# Altium footprint library Connectors Rectangular 2.54 PB.PcbLib: 15 footprints
Each footprint in its own frame and in the unit in brackets; x right, y up, seen from the top. Pads: shape width x height; smd on the part's side, far side on the other; paste and mask are expansions set on the pad; w line width, h text height; cw(c..) or ccw(c..) is an arc to the next point about the centre after c.
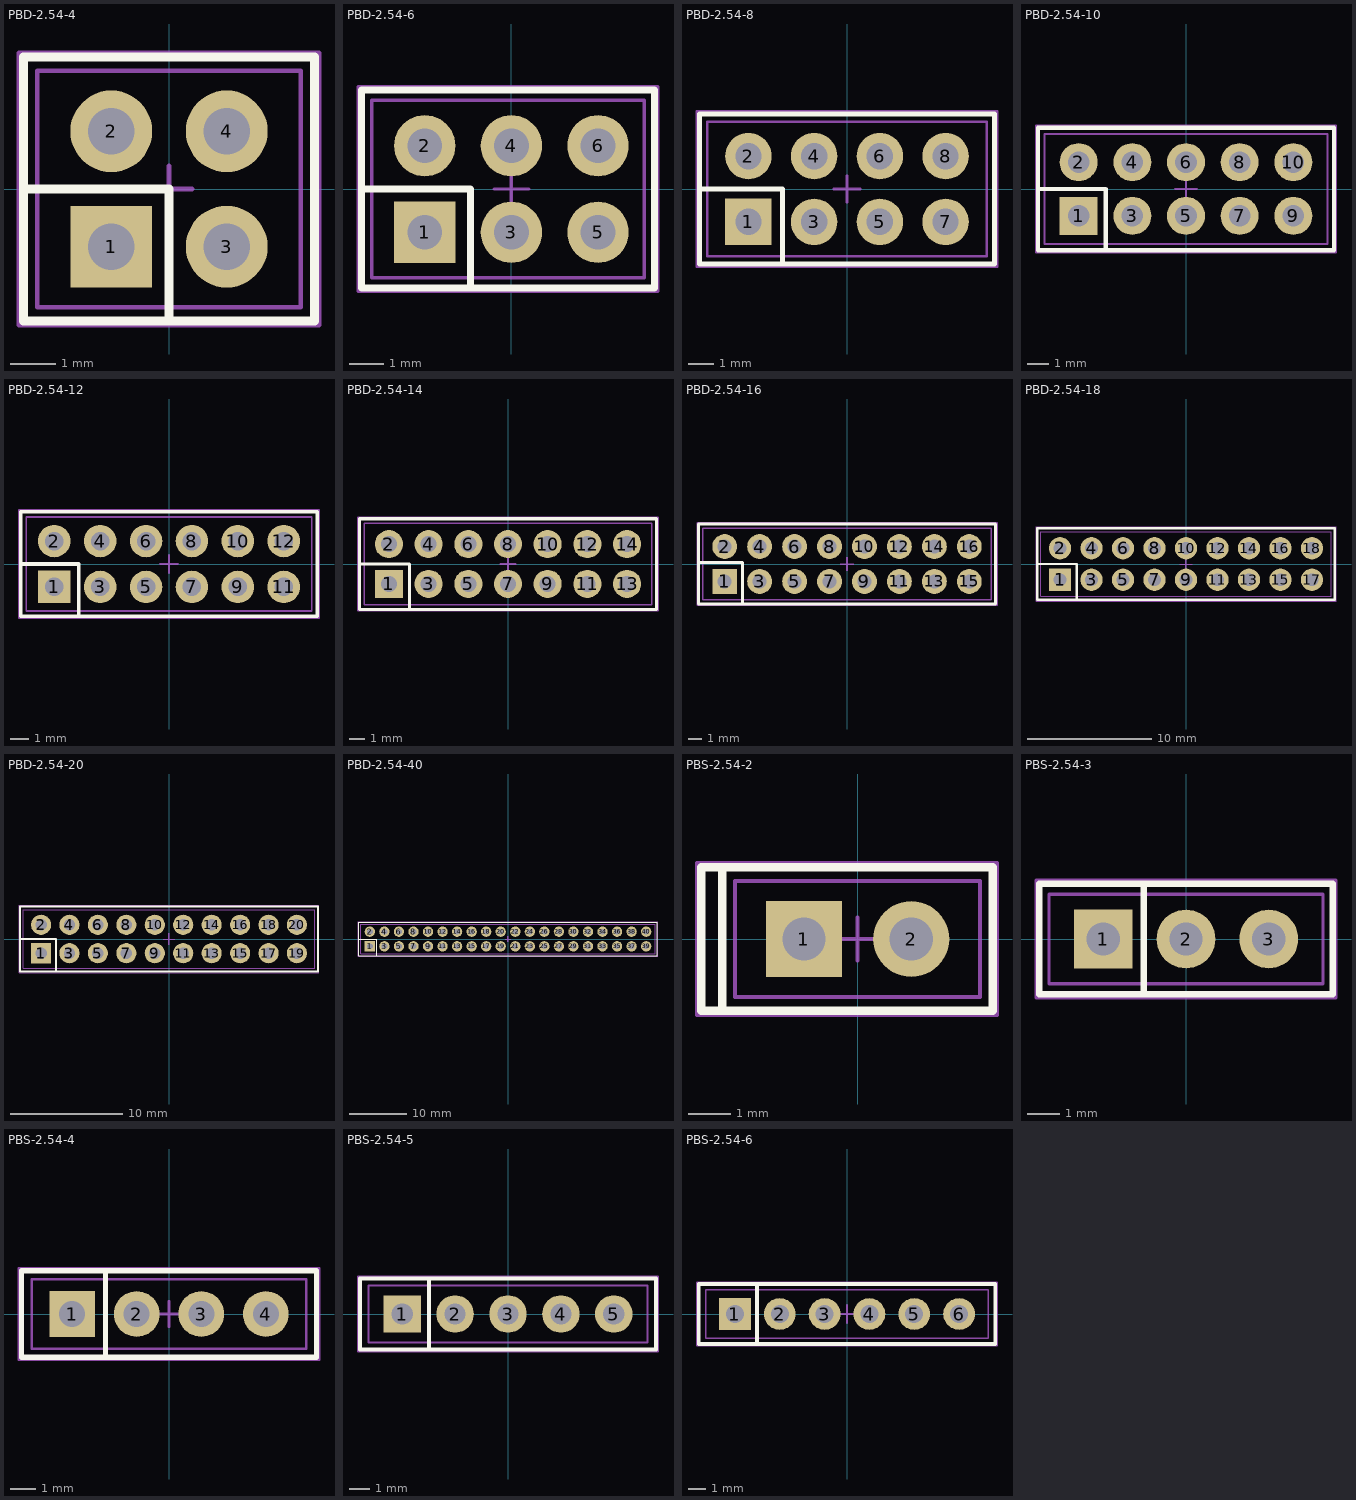
[diagram p0: the footprints below, top view; thin cyan lines are the x and y axes]

## PBD-2.54-4 [mm]
height 8.54
pads (4):
  rect 1.8x1.8 hole 1.02: 1(-1.27,-1.27)
  round 1.8 hole 1.02: 2(-1.27,1.27) 3(1.27,-1.27) 4(1.27,1.27)
Top Overlay:
  lines w0.2: -3.2,0 0,0 0,-2.9 ; -3.2,-2.9 3.2,-2.9 3.2,2.9 -3.2,2.9 -3.2,-2.9
Top Package:
  circle w0.1: c1.27,-1.27 r0.4
  circle w0.1: c1.27,1.27 r0.4
  circle w0.1: c-1.27,-1.27 r0.4
  circle w0.1: c-1.27,1.27 r0.4
  lines w0.1: -2.9,-2.6 2.9,-2.6 2.9,2.6 -2.9,2.6 -2.9,-2.6
Top Comment:
  text ".Comment" at -2.84,3.548 h2
Top Designator:
  text ".Designator" at -4.303,3.617 h2.5
Top Border:
  lines w0.1: -0.5,0 0.5,0 ; 0,-0.5 0,0.5 ; -3.3,-3 -3.3,3 3.3,3 3.3,-3 -3.3,-3 ; -0.508,0 0.508,0 -0.508,0 ; 0,-0.508 0,0.508 0,-0.508
3D body "PB-2x V1.stp": height 8.6, standoff -2.9, extent -0.2,-2.52 2.74,2.52
3D body "PB-2x V1.stp": height 8.6, standoff -2.9, extent -2.74,-2.52 0.2,2.52

## PBD-2.54-6 [mm]
height 8.54
pads (6):
  rect 1.8x1.8 hole 1.02: 1(-2.54,-1.27)
  round 1.8 hole 1.02: 2(-2.54,1.27) 3(0,-1.27) 4(0,1.27) 5(2.54,-1.27) 6(2.54,1.27)
Top Overlay:
  lines w0.2: -4.4,0 -1.2,0 -1.2,-2.9 ; -4.4,-2.9 4.2,-2.9 4.2,2.9 -4.4,2.9 -4.4,-2.9
Top Package:
  circle w0.1: c0,-1.27 r0.4
  circle w0.1: c0,1.27 r0.4
  circle w0.1: c-2.54,-1.27 r0.4
  circle w0.1: c-2.54,1.27 r0.4
  circle w0.1: c2.54,1.27 r0.4
  circle w0.1: c2.54,-1.27 r0.4
  lines w0.1: -4.1,-2.6 3.9,-2.6 3.9,2.6 -4.1,2.6 -4.1,-2.6
Top Comment:
  text ".Comment" at -2.84,3.548 h2
Top Designator:
  text ".Designator" at -4.303,3.617 h2.5
Top Border:
  lines w0.1: -0.5,0 0.5,0 ; 0,-0.5 0,0.5 ; -4.5,-3 -4.5,3 4.3,3 4.3,-3 -4.5,-3 ; -0.508,0 0.508,0 -0.508,0 ; 0,-0.508 0,0.508 0,-0.508
3D body "PB-2x V1.stp": height 8.6, standoff -2.9, extent -1.67,-2.52 1.27,2.52
3D body "PB-2x V1.stp": height 8.6, standoff -2.9, extent -4.01,-2.52 -1.07,2.52
3D body "PB-2x V1.stp": height 8.6, standoff -2.9, extent 0.87,-2.52 3.81,2.52

## PBD-2.54-8 [mm]
height 8.54
pads (8):
  rect 1.8x1.8 hole 1.02: 1(-3.81,-1.27)
  round 1.8 hole 1.02: 2(-3.81,1.27) 3(-1.27,-1.27) 4(-1.27,1.27) 5(1.27,-1.27) 6(1.27,1.27) 7(3.81,-1.27) 8(3.81,1.27)
Top Overlay:
  lines w0.2: -5.7,0 -2.5,0 -2.5,-2.9 ; -5.7,-2.9 5.7,-2.9 5.7,2.9 -5.7,2.9 -5.7,-2.9
Top Package:
  circle w0.1: c1.27,-1.27 r0.4
  circle w0.1: c1.27,1.27 r0.4
  circle w0.1: c-1.27,-1.27 r0.4
  circle w0.1: c-1.27,1.27 r0.4
  circle w0.1: c-3.81,-1.27 r0.4
  circle w0.1: c-3.81,1.27 r0.4
  circle w0.1: c3.81,-1.27 r0.4
  circle w0.1: c3.81,1.27 r0.4
  lines w0.1: -5.4,-2.6 5.4,-2.6 5.4,2.6 -5.4,2.6 -5.4,-2.6
Top Comment:
  text ".Comment" at -3.548,3.385 h2.5
Top Designator:
  text ".Designator" at -4.303,3.617 h2.5
Top Border:
  lines w0.1: -0.5,0 0.5,0 ; 0,-0.5 0,0.5 ; -5.8,-3 -5.8,3 5.8,3 5.8,-3 -5.8,-3 ; -0.508,0 0.508,0 -0.508,0 ; 0,-0.508 0,0.508 0,-0.508
3D body "PB-2x V1.stp": height 8.6, standoff -2.9, extent -0.2,-2.52 2.74,2.52
3D body "PB-2x V1.stp": height 8.6, standoff -2.9, extent -2.74,-2.52 0.2,2.52
3D body "PB-2x V1.stp": height 8.6, standoff -2.9, extent -5.28,-2.52 -2.34,2.52
3D body "PB-2x V1.stp": height 8.6, standoff -2.9, extent 2.34,-2.52 5.28,2.52

## PBD-2.54-10 [mm]
height 8.54
pads (10):
  rect 1.8x1.8 hole 1.02: 1(-5.08,-1.27)
  round 1.8 hole 1.02: 2(-5.08,1.27) 3(-2.54,-1.27) 4(-2.54,1.27) 5(0,-1.27) 6(0,1.27) 7(2.54,-1.27) 8(2.54,1.27) 9(5.08,-1.27) 10(5.08,1.27)
Top Overlay:
  lines w0.2: -7,0 -3.8,0 -3.8,-2.9 ; -7,-2.9 7,-2.9 7,2.9 -7,2.9 -7,-2.9
Top Package:
  circle w0.1: c5.08,-1.27 r0.4
  circle w0.1: c5.08,1.27 r0.4
  circle w0.1: c-5.08,-1.27 r0.4
  circle w0.1: c-5.08,1.27 r0.4
  circle w0.1: c0,-1.27 r0.4
  circle w0.1: c0,1.27 r0.4
  circle w0.1: c-2.54,-1.27 r0.4
  circle w0.1: c-2.54,1.27 r0.4
  circle w0.1: c2.54,1.27 r0.4
  circle w0.1: c2.54,-1.27 r0.4
  lines w0.1: -6.7,-2.6 6.7,-2.6 6.7,2.6 -6.7,2.6 -6.7,-2.6
Top Comment:
  text ".Comment" at -3.548,3.385 h2.5
Top Designator:
  text ".Designator" at -4.303,3.617 h2.5
Top Border:
  lines w0.1: -0.5,0 0.5,0 ; 0,-0.5 0,0.5 ; -7.1,-3 -7.1,3 7.1,3 7.1,-3 -7.1,-3 ; -0.508,0 0.508,0 -0.508,0 ; 0,-0.508 0,0.508 0,-0.508
3D body "PB-2x V1.stp": height 8.6, standoff -2.9, extent 3.61,-2.52 6.55,2.52
3D body "PB-2x V1.stp": height 8.6, standoff -2.9, extent -6.55,-2.52 -3.61,2.52
3D body "PB-2x V1.stp": height 8.6, standoff -2.9, extent -1.67,-2.52 1.27,2.52
3D body "PB-2x V1.stp": height 8.6, standoff -2.9, extent -4.01,-2.52 -1.07,2.52
3D body "PB-2x V1.stp": height 8.6, standoff -2.9, extent 0.87,-2.52 3.81,2.52

## PBD-2.54-12 [mm]
height 8.54
pads (12):
  rect 1.8x1.8 hole 1.02: 1(-6.35,-1.27)
  round 1.8 hole 1.02: 2(-6.35,1.27) 3(-3.81,-1.27) 4(-3.81,1.27) 5(-1.27,-1.27) 6(-1.27,1.27) 7(1.27,-1.27) 8(1.27,1.27) 9(3.81,-1.27) 10(3.81,1.27) 11(6.35,-1.27) 12(6.35,1.27)
Top Overlay:
  lines w0.2: -8.2,0 -5,0 -5,-2.9 ; -8.2,-2.9 -8.2,2.9 8.2,2.9 8.2,-2.9 -8.2,-2.9
Top Package:
  circle w0.1: c3.81,1.27 r0.4
  circle w0.1: c3.81,-1.27 r0.4
  circle w0.1: c-3.81,1.27 r0.4
  circle w0.1: c-3.81,-1.27 r0.4
  circle w0.1: c-1.27,1.27 r0.4
  circle w0.1: c-1.27,-1.27 r0.4
  circle w0.1: c1.27,1.27 r0.4
  circle w0.1: c1.27,-1.27 r0.4
  circle w0.1: c-6.35,1.27 r0.4
  circle w0.1: c-6.35,-1.27 r0.4
  circle w0.1: c6.35,1.27 r0.4
  circle w0.1: c6.35,-1.27 r0.4
  lines w0.1: -7.9,-2.6 -7.9,2.6 7.9,2.6 7.9,-2.6 -7.9,-2.6
Top Comment:
  text ".Comment" at -3.548,3.385 h2.5
Top Designator:
  text ".Designator" at -4.303,3.617 h2.5
Top Border:
  lines w0.1: -0.5,0 0.5,0 ; 0,-0.5 0,0.5 ; -8.3,-3 8.3,-3 8.3,3 -8.3,3 -8.3,-3 ; -0.508,0 0.508,0 -0.508,0 ; 0,-0.508 0,0.508 0,-0.508
3D body "PB-2x V1.stp": height 8.6, standoff -2.9, extent 2.34,-2.52 5.28,2.52
3D body "PB-2x V1.stp": height 8.6, standoff -2.9, extent -5.28,-2.52 -2.34,2.52
3D body "PB-2x V1.stp": height 8.6, standoff -2.9, extent -2.74,-2.52 0.2,2.52
3D body "PB-2x V1.stp": height 8.6, standoff -2.9, extent -0.2,-2.52 2.74,2.52
3D body "PB-2x V1.stp": height 8.6, standoff -2.9, extent -7.82,-2.52 -4.88,2.52
3D body "PB-2x V1.stp": height 8.6, standoff -2.9, extent 4.88,-2.52 7.82,2.52

## PBD-2.54-14 [mm]
height 8.54
pads (14):
  rect 1.8x1.8 hole 1.02: 1(-7.62,-1.27)
  round 1.8 hole 1.02: 2(-7.62,1.27) 3(-5.08,-1.27) 4(-5.08,1.27) 5(-2.54,-1.27) 6(-2.54,1.27) 7(0,-1.27) 8(0,1.27) 9(2.54,-1.27) 10(2.54,1.27) 11(5.08,-1.27) 12(5.08,1.27) 13(7.62,-1.27) 14(7.62,1.27)
Top Overlay:
  lines w0.2: -9.5,0 -6.3,0 -6.3,-2.9 ; -9.5,-2.9 9.5,-2.9 9.5,2.9 -9.5,2.9 -9.5,-2.9
Top Package:
  circle w0.1: c5.08,-1.27 r0.4
  circle w0.1: c5.08,1.27 r0.4
  circle w0.1: c-5.08,-1.27 r0.4
  circle w0.1: c-5.08,1.27 r0.4
  circle w0.1: c0,-1.27 r0.4
  circle w0.1: c0,1.27 r0.4
  circle w0.1: c-2.54,-1.27 r0.4
  circle w0.1: c-2.54,1.27 r0.4
  circle w0.1: c2.54,1.27 r0.4
  circle w0.1: c2.54,-1.27 r0.4
  circle w0.1: c-7.62,1.27 r0.4
  circle w0.1: c-7.62,-1.27 r0.4
  circle w0.1: c7.62,1.27 r0.4
  circle w0.1: c7.62,-1.27 r0.4
  lines w0.1: -9.2,-2.6 9.2,-2.6 9.2,2.6 -9.2,2.6 -9.2,-2.6
Top Comment:
  text ".Comment" at -3.548,3.385 h2.5
Top Designator:
  text ".Designator" at -4.303,3.617 h2.5
Top Border:
  lines w0.1: -0.5,0 0.5,0 ; 0,-0.5 0,0.5 ; -9.6,-3 -9.6,3 9.6,3 9.6,-3 -9.6,-3 ; -0.508,0 0.508,0 -0.508,0 ; 0,-0.508 0,0.508 0,-0.508
3D body "PB-2x V1.stp": height 8.6, standoff -2.9, extent 3.61,-2.52 6.55,2.52
3D body "PB-2x V1.stp": height 8.6, standoff -2.9, extent -6.55,-2.52 -3.61,2.52
3D body "PB-2x V1.stp": height 8.6, standoff -2.9, extent -1.67,-2.52 1.27,2.52
3D body "PB-2x V1.stp": height 8.6, standoff -2.9, extent -4.01,-2.52 -1.07,2.52
3D body "PB-2x V1.stp": height 8.6, standoff -2.9, extent 0.87,-2.52 3.81,2.52
3D body "PB-2x V1.stp": height 8.6, standoff -2.9, extent -9.09,-2.52 -6.15,2.52
3D body "PB-2x V1.stp": height 8.6, standoff -2.9, extent 6.15,-2.52 9.09,2.52

## PBD-2.54-16 [mm]
height 8.54
pads (16):
  rect 1.8x1.8 hole 1.02: 1(-8.89,-1.27)
  round 1.8 hole 1.02: 2(-8.89,1.27) 3(-6.35,-1.27) 4(-6.35,1.27) 5(-3.81,-1.27) 6(-3.81,1.27) 7(-1.27,-1.27) 8(-1.27,1.27) 9(1.27,-1.27) 10(1.27,1.27) 11(3.81,-1.27) 12(3.81,1.27) 13(6.35,-1.27) 14(6.35,1.27) 15(8.89,-1.27) 16(8.89,1.27)
Top Overlay:
  lines w0.2: -10.8,0.1 -7.6,0.1 -7.6,-2.8 ; -10.8,-2.9 10.8,-2.9 10.8,2.9 -10.8,2.9 -10.8,-2.9
Top Package:
  circle w0.1: c6.35,-1.27 r0.4
  circle w0.1: c6.35,1.27 r0.4
  circle w0.1: c-6.35,-1.27 r0.4
  circle w0.1: c-6.35,1.27 r0.4
  circle w0.1: c1.27,-1.27 r0.4
  circle w0.1: c1.27,1.27 r0.4
  circle w0.1: c-1.27,-1.27 r0.4
  circle w0.1: c-1.27,1.27 r0.4
  circle w0.1: c-3.81,-1.27 r0.4
  circle w0.1: c-3.81,1.27 r0.4
  circle w0.1: c3.81,-1.27 r0.4
  circle w0.1: c3.81,1.27 r0.4
  circle w0.1: c-8.89,-1.27 r0.4
  circle w0.1: c-8.89,1.27 r0.4
  circle w0.1: c8.89,-1.27 r0.4
  circle w0.1: c8.89,1.27 r0.4
  lines w0.1: -10.5,-2.6 10.5,-2.6 10.5,2.6 -10.5,2.6 -10.5,-2.6
Top Comment:
  text ".Comment" at -3.548,3.385 h2.5
Top Designator:
  text ".Designator" at -4.303,3.617 h2.5
Top Border:
  lines w0.1: -0.5,0 0.5,0 ; 0,-0.5 0,0.5 ; -10.9,-3 -10.9,3 10.9,3 10.9,-3 -10.9,-3 ; -0.508,0 0.508,0 -0.508,0 ; 0,-0.508 0,0.508 0,-0.508
3D body "PB-2x V1.stp": height 8.6, standoff -2.9, extent 4.88,-2.52 7.82,2.52
3D body "PB-2x V1.stp": height 8.6, standoff -2.9, extent -7.82,-2.52 -4.88,2.52
3D body "PB-2x V1.stp": height 8.6, standoff -2.9, extent -0.2,-2.52 2.74,2.52
3D body "PB-2x V1.stp": height 8.6, standoff -2.9, extent -2.74,-2.52 0.2,2.52
3D body "PB-2x V1.stp": height 8.6, standoff -2.9, extent -5.28,-2.52 -2.34,2.52
3D body "PB-2x V1.stp": height 8.6, standoff -2.9, extent 2.34,-2.52 5.28,2.52
3D body "PB-2x V1.stp": height 8.6, standoff -2.9, extent -10.36,-2.52 -7.42,2.52
3D body "PB-2x V1.stp": height 8.6, standoff -2.9, extent 7.42,-2.52 10.36,2.52

## PBD-2.54-18 [mm]
height 8.54
pads (18):
  rect 1.8x1.8 hole 1.02: 1(-10.16,-1.27)
  round 1.8 hole 1.02: 2(-10.16,1.27) 3(-7.62,-1.27) 4(-7.62,1.27) 5(-5.08,-1.27) 6(-5.08,1.27) 7(-2.54,-1.27) 8(-2.54,1.27) 9(0,-1.27) 10(0,1.27) 11(2.54,-1.27) 12(2.54,1.27) 13(5.08,-1.27) 14(5.08,1.27) 15(7.62,-1.27) 16(7.62,1.27) 17(10.16,-1.27) 18(10.16,1.27)
Top Overlay:
  lines w0.2: -12,0 -8.8,0 -8.8,-2.9 ; -12,-2.9 12,-2.9 12,2.9 -12,2.9 -12,-2.9
Top Package:
  circle w0.1: c5.08,-1.27 r0.4
  circle w0.1: c5.08,1.27 r0.4
  circle w0.1: c-5.08,-1.27 r0.4
  circle w0.1: c-5.08,1.27 r0.4
  circle w0.1: c0,-1.27 r0.4
  circle w0.1: c0,1.27 r0.4
  circle w0.1: c-2.54,-1.27 r0.4
  circle w0.1: c-2.54,1.27 r0.4
  circle w0.1: c2.54,1.27 r0.4
  circle w0.1: c2.54,-1.27 r0.4
  circle w0.1: c-7.62,1.27 r0.4
  circle w0.1: c-7.62,-1.27 r0.4
  circle w0.1: c7.62,1.27 r0.4
  circle w0.1: c7.62,-1.27 r0.4
  circle w0.1: c-10.16,1.27 r0.4
  circle w0.1: c-10.16,-1.27 r0.4
  circle w0.1: c10.16,1.27 r0.4
  circle w0.1: c10.16,-1.27 r0.4
  lines w0.1: -11.7,-2.6 11.7,-2.6 11.7,2.6 -11.7,2.6 -11.7,-2.6
Top Comment:
  text ".Comment" at -3.548,3.385 h2.5
Top Designator:
  text ".Designator" at -4.303,3.617 h2.5
Top Border:
  lines w0.1: -0.5,0 0.5,0 ; 0,-0.5 0,0.5 ; -12.1,-3 -12.1,3 12.1,3 12.1,-3 -12.1,-3 ; -0.508,0 0.508,0 -0.508,0 ; 0,-0.508 0,0.508 0,-0.508
3D body "PB-2x V1.stp": height 8.6, standoff -2.9, extent 3.61,-2.52 6.55,2.52
3D body "PB-2x V1.stp": height 8.6, standoff -2.9, extent -6.55,-2.52 -3.61,2.52
3D body "PB-2x V1.stp": height 8.6, standoff -2.9, extent -1.67,-2.52 1.27,2.52
3D body "PB-2x V1.stp": height 8.6, standoff -2.9, extent -4.01,-2.52 -1.07,2.52
3D body "PB-2x V1.stp": height 8.6, standoff -2.9, extent 0.87,-2.52 3.81,2.52
3D body "PB-2x V1.stp": height 8.6, standoff -2.9, extent -9.09,-2.52 -6.15,2.52
3D body "PB-2x V1.stp": height 8.6, standoff -2.9, extent 6.15,-2.52 9.09,2.52
3D body "PB-2x V1.stp": height 8.6, standoff -2.9, extent -11.63,-2.52 -8.69,2.52
3D body "PB-2x V1.stp": height 8.6, standoff -2.9, extent 8.69,-2.52 11.63,2.52

## PBD-2.54-20 [mm]
height 8.54
pads (20):
  rect 1.8x1.8 hole 1.02: 1(-11.43,-1.27)
  round 1.8 hole 1.02: 2(-11.43,1.27) 3(-8.89,-1.27) 4(-8.89,1.27) 5(-6.35,-1.27) 6(-6.35,1.27) 7(-3.81,-1.27) 8(-3.81,1.27) 9(-1.27,-1.27) 10(-1.27,1.27) 11(1.27,-1.27) 12(1.27,1.27) 13(3.81,-1.27) 14(3.81,1.27) 15(6.35,-1.27) 16(6.35,1.27) 17(8.89,-1.27) 18(8.89,1.27) 19(11.43,-1.27) 20(11.43,1.27)
Top Overlay:
  lines w0.2: -13.3,0 -10.1,0 -10.1,-2.9 ; -13.3,-2.9 -13.3,2.9 13.3,2.9 13.3,-2.9 -13.3,-2.9
Top Package:
  circle w0.1: c11.43,1.27 r0.4
  circle w0.1: c11.43,-1.27 r0.4
  circle w0.1: c8.89,1.27 r0.4
  circle w0.1: c8.89,-1.27 r0.4
  circle w0.1: c-11.43,1.27 r0.4
  circle w0.1: c-11.43,-1.27 r0.4
  circle w0.1: c-8.89,1.27 r0.4
  circle w0.1: c-8.89,-1.27 r0.4
  circle w0.1: c3.81,1.27 r0.4
  circle w0.1: c3.81,-1.27 r0.4
  circle w0.1: c-3.81,1.27 r0.4
  circle w0.1: c-3.81,-1.27 r0.4
  circle w0.1: c-1.27,1.27 r0.4
  circle w0.1: c-1.27,-1.27 r0.4
  circle w0.1: c1.27,1.27 r0.4
  circle w0.1: c1.27,-1.27 r0.4
  circle w0.1: c-6.35,1.27 r0.4
  circle w0.1: c-6.35,-1.27 r0.4
  circle w0.1: c6.35,1.27 r0.4
  circle w0.1: c6.35,-1.27 r0.4
  lines w0.1: -13,-2.6 -13,2.6 13,2.6 13,-2.6 -13,-2.6
Top Comment:
  text ".Comment" at -3.548,3.385 h2.5
Top Designator:
  text ".Designator" at -4.303,3.617 h2.5
Top Border:
  lines w0.1: -0.5,0 0.5,0 ; 0,-0.5 0,0.5 ; -13.4,-3 13.4,-3 13.4,3 -13.4,3 -13.4,-3 ; -0.508,0 0.508,0 -0.508,0 ; 0,-0.508 0,0.508 0,-0.508
3D body "PB-2x V1.stp": height 8.6, standoff -2.9, extent 9.96,-2.52 12.9,2.52
3D body "PB-2x V1.stp": height 8.6, standoff -2.9, extent -12.9,-2.52 -9.96,2.52
3D body "PB-2x V1.stp": height 8.6, standoff -2.9, extent 7.42,-2.52 10.36,2.52
3D body "PB-2x V1.stp": height 8.6, standoff -2.9, extent -10.36,-2.52 -7.42,2.52
3D body "PB-2x V1.stp": height 8.6, standoff -2.9, extent 2.34,-2.52 5.28,2.52
3D body "PB-2x V1.stp": height 8.6, standoff -2.9, extent -5.28,-2.52 -2.34,2.52
3D body "PB-2x V1.stp": height 8.6, standoff -2.9, extent -2.74,-2.52 0.2,2.52
3D body "PB-2x V1.stp": height 8.6, standoff -2.9, extent -0.2,-2.52 2.74,2.52
3D body "PB-2x V1.stp": height 8.6, standoff -2.9, extent -7.82,-2.52 -4.88,2.52
3D body "PB-2x V1.stp": height 8.6, standoff -2.9, extent 4.88,-2.52 7.82,2.52

## PBD-2.54-40 [mm]
height 8.54
pads (40):
  rect 1.8x1.8 hole 1.02: 1(-24.13,-1.27)
  round 1.8 hole 1.02: 2(-24.13,1.27) 3(-21.59,-1.27) 4(-21.59,1.27) 5(-19.05,-1.27) 6(-19.05,1.27) 7(-16.51,-1.27) 8(-16.51,1.27) 9(-13.97,-1.27) 10(-13.97,1.27) 11(-11.43,-1.27) 12(-11.43,1.27) 13(-8.89,-1.27) 14(-8.89,1.27) 15(-6.35,-1.27) 16(-6.35,1.27) 17(-3.81,-1.27) 18(-3.81,1.27) 19(-1.27,-1.27) 20(-1.27,1.27) 21(1.27,-1.27) 22(1.27,1.27) 23(3.81,-1.27) 24(3.81,1.27) 25(6.35,-1.27) 26(6.35,1.27) 27(8.89,-1.27) 28(8.89,1.27) 29(11.43,-1.27) 30(11.43,1.27) 31(13.97,-1.27) 32(13.97,1.27) 33(16.51,-1.27) 34(16.51,1.27) 35(19.05,-1.27) 36(19.05,1.27) 37(21.59,-1.27) 38(21.59,1.27) 39(24.13,-1.27) 40(24.13,1.27)
Top Overlay:
  lines w0.2: -26.1,0 -22.9,0 -22.9,-2.9 ; -26.1,-2.9 26.1,-2.9 26.1,2.9 -26.1,2.9 -26.1,-2.9
Top Package:
  circle w0.1: c19.05,-1.27 r0.4
  circle w0.1: c19.05,1.27 r0.4
  circle w0.1: c6.35,-1.27 r0.4
  circle w0.1: c6.35,1.27 r0.4
  circle w0.1: c13.97,-1.27 r0.4
  circle w0.1: c13.97,1.27 r0.4
  circle w0.1: c11.43,-1.27 r0.4
  circle w0.1: c11.43,1.27 r0.4
  circle w0.1: c8.89,-1.27 r0.4
  circle w0.1: c8.89,1.27 r0.4
  circle w0.1: c16.51,-1.27 r0.4
  circle w0.1: c16.51,1.27 r0.4
  circle w0.1: c3.81,-1.27 r0.4
  circle w0.1: c3.81,1.27 r0.4
  circle w0.1: c1.27,-1.27 r0.4
  circle w0.1: c1.27,1.27 r0.4
  circle w0.1: c21.59,-1.27 r0.4
  circle w0.1: c21.59,1.27 r0.4
  circle w0.1: c24.13,-1.27 r0.4
  circle w0.1: c24.13,1.27 r0.4
  circle w0.1: c-6.35,-1.27 r0.4
  circle w0.1: c-6.35,1.27 r0.4
  circle w0.1: c-19.05,-1.27 r0.4
  circle w0.1: c-19.05,1.27 r0.4
  circle w0.1: c-11.43,-1.27 r0.4
  circle w0.1: c-11.43,1.27 r0.4
  circle w0.1: c-13.97,-1.27 r0.4
  circle w0.1: c-13.97,1.27 r0.4
  circle w0.1: c-16.51,-1.27 r0.4
  circle w0.1: c-16.51,1.27 r0.4
  circle w0.1: c-8.89,-1.27 r0.4
  circle w0.1: c-8.89,1.27 r0.4
  circle w0.1: c-21.59,-1.27 r0.4
  circle w0.1: c-21.59,1.27 r0.4
  circle w0.1: c-24.13,-1.27 r0.4
  circle w0.1: c-24.13,1.27 r0.4
  circle w0.1: c-3.81,-1.27 r0.4
  circle w0.1: c-3.81,1.27 r0.4
  circle w0.1: c-1.27,-1.27 r0.4
  circle w0.1: c-1.27,1.27 r0.4
  lines w0.1: -25.7,-2.6 25.7,-2.6 25.7,2.6 -25.7,2.6 -25.7,-2.6
Top Comment:
  text ".Comment" at -3.548,3.385 h2.5
Top Designator:
  text ".Designator" at -4.303,3.617 h2.5
Top Border:
  lines w0.1: -0.5,0 0.5,0 ; 0,-0.5 0,0.5 ; -26.2,-3 -26.2,3 26.2,3 26.2,-3 -26.2,-3 ; -0.508,0 0.508,0 -0.508,0 ; 0,-0.508 0,0.508 0,-0.508
3D body "PB-2x V1.stp": height 8.6, standoff -2.9, extent 17.58,-2.52 20.52,2.52
3D body "PB-2x V1.stp": height 8.6, standoff -2.9, extent 4.88,-2.52 7.82,2.52
3D body "PB-2x V1.stp": height 8.6, standoff -2.9, extent 12.5,-2.52 15.44,2.52
3D body "PB-2x V1.stp": height 8.6, standoff -2.9, extent 9.96,-2.52 12.9,2.52
3D body "PB-2x V1.stp": height 8.6, standoff -2.9, extent 7.42,-2.52 10.36,2.52
3D body "PB-2x V1.stp": height 8.6, standoff -2.9, extent 15.04,-2.52 17.98,2.52
3D body "PB-2x V1.stp": height 8.6, standoff -2.9, extent 2.34,-2.52 5.28,2.52
3D body "PB-2x V1.stp": height 8.6, standoff -2.9, extent 20.12,-2.52 23.06,2.52
3D body "PB-2x V1.stp": height 8.6, standoff -2.9, extent -0.2,-2.52 2.74,2.52
3D body "PB-2x V1.stp": height 8.6, standoff -2.9, extent 22.66,-2.52 25.6,2.52
3D body "PB-2x V1.stp": height 8.6, standoff -2.9, extent -7.82,-2.52 -4.88,2.52
3D body "PB-2x V1.stp": height 8.6, standoff -2.9, extent -20.52,-2.52 -17.58,2.52
3D body "PB-2x V1.stp": height 8.6, standoff -2.9, extent -12.9,-2.52 -9.96,2.52
3D body "PB-2x V1.stp": height 8.6, standoff -2.9, extent -15.44,-2.52 -12.5,2.52
3D body "PB-2x V1.stp": height 8.6, standoff -2.9, extent -17.98,-2.52 -15.04,2.52
3D body "PB-2x V1.stp": height 8.6, standoff -2.9, extent -10.36,-2.52 -7.42,2.52
3D body "PB-2x V1.stp": height 8.6, standoff -2.9, extent -23.06,-2.52 -20.12,2.52
3D body "PB-2x V1.stp": height 8.6, standoff -2.9, extent -5.28,-2.52 -2.34,2.52
3D body "PB-2x V1.stp": height 8.6, standoff -2.9, extent -25.6,-2.52 -22.66,2.52
3D body "PB-2x V1.stp": height 8.6, standoff -2.9, extent -2.74,-2.52 0.2,2.52

## PBS-2.54-2 [mm]
height 8.54
pads (2):
  rect 1.8x1.8 hole 1.02: 1(-1.27,0)
  round 1.8 hole 1.02: 2(1.27,0)
Top Overlay:
  lines w0.2: -3.2,-1.7 -3.2,1.7 ; -3.7,-1.7 -3.7,1.7 3.2,1.7 3.2,-1.7 -3.7,-1.7
Top Package:
  circle w0.1: c1.27,0 r0.4
  circle w0.1: c-1.27,0 r0.4
  lines w0.1: -2.9,-1.375 -2.9,1.375 2.9,1.375 2.9,-1.375 -2.9,-1.375
Top Comment:
  text ".Comment" at -2.84,2.348 h2
Top Designator:
  text ".Designator" at -4.303,2.417 h2.5
Top Border:
  lines w0.1: -0.5,0 0.5,0 ; 0,-0.5 0,0.5 ; -3.8,-1.8 3.3,-1.8 3.3,1.8 -3.8,1.8 -3.8,-1.8 ; -0.508,0 0.508,0 -0.508,0 ; 0,-0.508 0,0.508 0,-0.508
3D body "PB-1x V1.stp": height 8.6, standoff -2.9, extent -0.2,-1.25 2.74,1.25
3D body "PB-1x V1.stp": height 8.6, standoff -2.9, extent -2.74,-1.25 0.2,1.25

## PBS-2.54-3 [mm]
height 8.54
pads (3):
  rect 1.8x1.8 hole 1.02: 1(-2.54,0)
  round 1.8 hole 1.02: 2(0,0) 3(2.54,0)
Top Overlay:
  lines w0.2: -1.3,-1.7 -1.3,1.7 ; -4.5,-1.7 -4.5,1.7 4.5,1.7 4.5,-1.7 -4.5,-1.7
Top Package:
  circle w0.1: c0,0 r0.4
  circle w0.1: c-2.54,0 r0.4
  circle w0.1: c2.54,0 r0.4
  lines w0.1: -4.2,-1.375 -4.2,1.375 4.2,1.375 4.2,-1.375 -4.2,-1.375
Top Comment:
  text ".Comment" at -2.84,2.348 h2
Top Designator:
  text ".Designator" at -4.303,2.417 h2.5
Top Border:
  lines w0.1: -0.5,0 0.5,0 ; 0,-0.5 0,0.5 ; -4.6,-1.8 4.6,-1.8 4.6,1.8 -4.6,1.8 -4.6,-1.8 ; -0.508,0 0.508,0 -0.508,0 ; 0,-0.508 0,0.508 0,-0.508
3D body "PB-1x V1.stp": height 8.6, standoff -2.9, extent 1.07,-1.25 4.01,1.25
3D body "PB-1x V1.stp": height 8.6, standoff -2.9, extent -1.47,-1.25 1.47,1.25
3D body "PB-1x V1.stp": height 8.6, standoff -2.9, extent -4.01,-1.25 -1.07,1.25

## PBS-2.54-4 [mm]
height 8.54
pads (4):
  rect 1.8x1.8 hole 1.02: 1(-3.81,0)
  round 1.8 hole 1.02: 2(-1.27,0) 3(1.27,0) 4(3.81,0)
Top Overlay:
  lines w0.2: -2.5,-1.7 -2.5,1.7 ; -5.8,-1.7 -5.8,1.7 5.8,1.7 5.8,-1.7 -5.8,-1.7
Top Package:
  circle w0.1: c3.81,0 r0.4
  circle w0.1: c-1.27,0 r0.4
  circle w0.1: c-3.81,0 r0.4
  circle w0.1: c1.27,0 r0.4
  lines w0.1: -5.4,-1.375 -5.4,1.375 5.4,1.375 5.4,-1.375 -5.4,-1.375
Top Comment:
  text ".Comment" at -3.548,2.185 h2.5
Top Designator:
  text ".Designator" at -4.303,2.417 h2.5
Top Border:
  lines w0.1: -0.5,0 0.5,0 ; 0,-0.5 0,0.5 ; -5.9,-1.8 5.9,-1.8 5.9,1.8 -5.9,1.8 -5.9,-1.8 ; -0.508,0 0.508,0 -0.508,0 ; 0,-0.508 0,0.508 0,-0.508
3D body "PB-1x V1.stp": height 8.6, standoff -2.9, extent 2.34,-1.27 5.28,1.23
3D body "PB-1x V1.stp": height 8.6, standoff -2.9, extent -5.28,-1.27 -2.34,1.23
3D body "PB-1x V1.stp": height 8.6, standoff -2.9, extent -0.2,-1.27 2.74,1.23
3D body "PB-1x V1.stp": height 8.6, standoff -2.9, extent -2.74,-1.27 0.2,1.23

## PBS-2.54-5 [mm]
height 8.54
pads (5):
  rect 1.8x1.8 hole 1.02: 1(-5.08,0)
  round 1.8 hole 1.02: 2(-2.54,0) 3(0,0) 4(2.54,0) 5(5.08,0)
Top Overlay:
  lines w0.2: -3.8,-1.7 -3.8,1.7 ; -7.1,-1.7 7.1,-1.7 7.1,1.7 -7.1,1.7 -7.1,-1.7
Top Package:
  circle w0.1: c5.08,0 r0.4
  circle w0.1: c-5.08,0 r0.4
  circle w0.1: c2.54,0 r0.4
  circle w0.1: c-2.54,0 r0.4
  circle w0.1: c0,0 r0.4
  lines w0.1: -6.7,-1.375 6.7,-1.375 6.7,1.375 -6.7,1.375 -6.7,-1.375
Top Comment:
  text ".Comment" at -2.84,2.348 h2
Top Designator:
  text ".Designator" at -4.303,2.417 h2.5
Top Border:
  lines w0.1: -0.5,0 0.5,0 ; 0,-0.5 0,0.5 ; -7.2,-1.8 -7.2,1.8 7.2,1.8 7.2,-1.8 -7.2,-1.8 ; -0.508,0 0.508,0 -0.508,0 ; 0,-0.508 0,0.508 0,-0.508
3D body "PB-1x V1.stp": height 8.6, standoff -2.9, extent -4.01,-1.25 -1.07,1.25
3D body "PB-1x V1.stp": height 8.6, standoff -2.9, extent -1.47,-1.25 1.47,1.25
3D body "PB-1x V1.stp": height 8.6, standoff -2.9, extent 1.07,-1.25 4.01,1.25
3D body "PB-1x V1.stp": height 8.6, standoff -2.9, extent 3.61,-1.25 6.55,1.25
3D body "PB-1x V1.stp": height 8.6, standoff -2.9, extent -6.55,-1.25 -3.61,1.25

## PBS-2.54-6 [mm]
height 8.54
pads (6):
  rect 1.8x1.8 hole 1.02: 1(-6.35,0)
  round 1.8 hole 1.02: 2(-3.81,0) 3(-1.27,0) 4(1.27,0) 5(3.81,0) 6(6.35,0)
Top Overlay:
  lines w0.2: -5.1,-1.7 -5.1,1.7 ; -8.4,-1.7 -8.4,1.7 8.4,1.7 8.4,-1.7 -8.4,-1.7
Top Package:
  circle w0.1: c6.35,0 r0.4
  circle w0.1: c-6.35,0 r0.4
  circle w0.1: c3.81,0 r0.4
  circle w0.1: c-1.27,0 r0.4
  circle w0.1: c-3.81,0 r0.4
  circle w0.1: c1.27,0 r0.4
  lines w0.1: -8,-1.375 -8,1.375 8,1.375 8,-1.375 -8,-1.375
Top Comment:
  text ".Comment" at -3.548,2.185 h2.5
Top Designator:
  text ".Designator" at -4.303,2.417 h2.5
Top Border:
  lines w0.1: -0.5,0 0.5,0 ; 0,-0.5 0,0.5 ; -8.5,-1.8 8.5,-1.8 8.5,1.8 -8.5,1.8 -8.5,-1.8 ; -0.508,0 0.508,0 -0.508,0 ; 0,-0.508 0,0.508 0,-0.508
3D body "PB-1x V1.stp": height 8.6, standoff -2.9, extent -7.82,-1.27 -4.88,1.23
3D body "PB-1x V1.stp": height 8.6, standoff -2.9, extent 4.88,-1.27 7.82,1.23
3D body "PB-1x V1.stp": height 8.6, standoff -2.9, extent 2.34,-1.27 5.28,1.23
3D body "PB-1x V1.stp": height 8.6, standoff -2.9, extent -5.28,-1.27 -2.34,1.23
3D body "PB-1x V1.stp": height 8.6, standoff -2.9, extent -0.2,-1.27 2.74,1.23
3D body "PB-1x V1.stp": height 8.6, standoff -2.9, extent -2.74,-1.27 0.2,1.23